# EAGLE library part AD8532 (library Digilent)
125-033: AD8532 Dual Op Amp
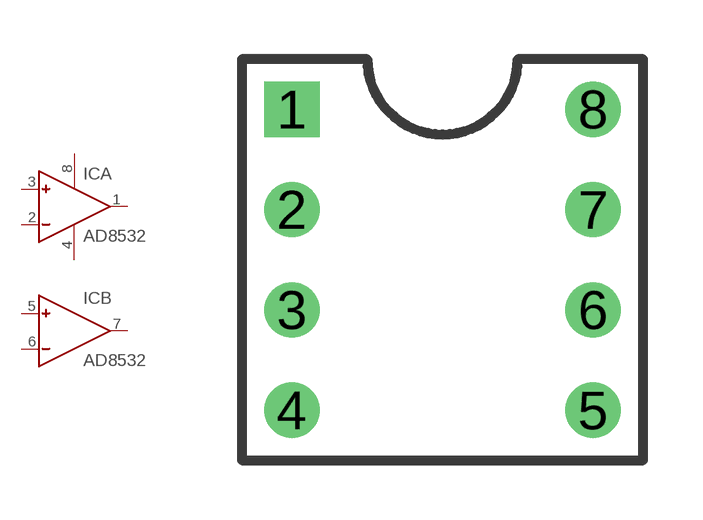
[diagram p43: symbol with the pads of DIP-8C; footprint DIP-8C]

Designator prefix IC; gates A=OPAMP-PWR B=OPAMP

## AD8532N  [DIP-8C]
1  A:OUT  out
2  A:IN-  in
3  A:IN+  in
4  A:V-  pwr
5  B:IN+  in
6  B:IN-  in
7  B:OUT  out
8  A:V+  pwr

## Footprint DIP-8C (pad centres in mm)
drill 0.889 square: 1 -3.81,3.81
drill 0.889 round: 2 -3.81,1.27; 3 -3.81,-1.27; 4 -3.81,-3.81; 5 3.81,-3.81; 6 3.81,-1.27; 7 3.81,1.27; 8 3.81,3.81